# Altium footprint library PWR_HDR_6P.PcbLib: 1 footprints
Each footprint in its own frame and in the unit in brackets; x right, y up, seen from the top. Pads: shape width x height; smd on the part's side, far side on the other; paste and mask are expansions set on the pad; w line width, h text height; cw(c..) or ccw(c..) is an arc to the next point about the centre after c.
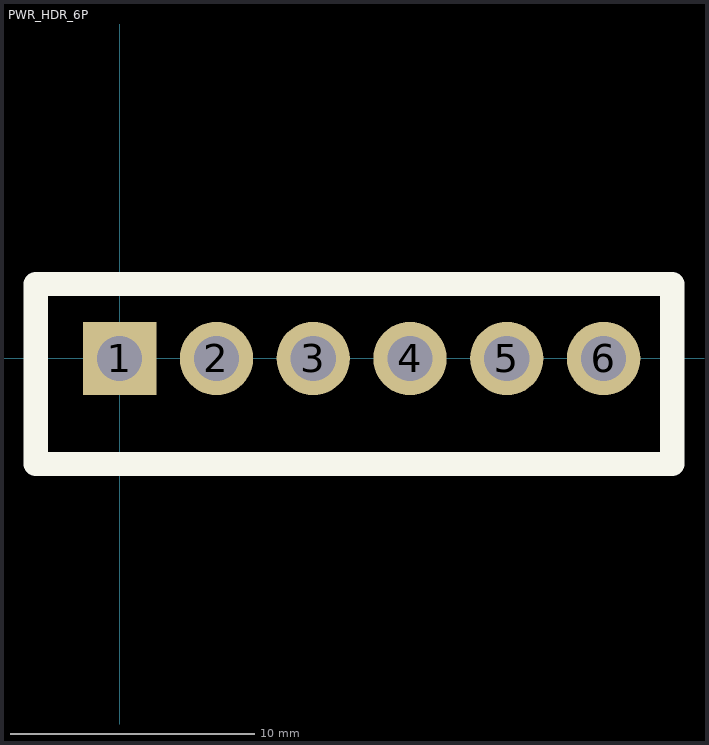
[diagram p0: the footprint, top view; thin cyan lines are the x and y axes]

## PWR_HDR_6P [mm]
pads (6):
  rect 3x3 hole 1.85: 1(0,0)
  round 3 hole 1.85: 2(3.96,0) 3(7.92,0) 4(11.88,0) 5(15.84,0) 6(19.8,0)
Top Overlay:
  lines w1: -3.429,-4.318 22.606,-4.318 22.606,3.048 -3.429,3.048 -3.429,-4.318